# Altium schematic symbol library 001-H-01 CAN to Bluetooth.SchLib: 35 symbols
Pins are listed as number, name and electrical type; pins without a type are passive.

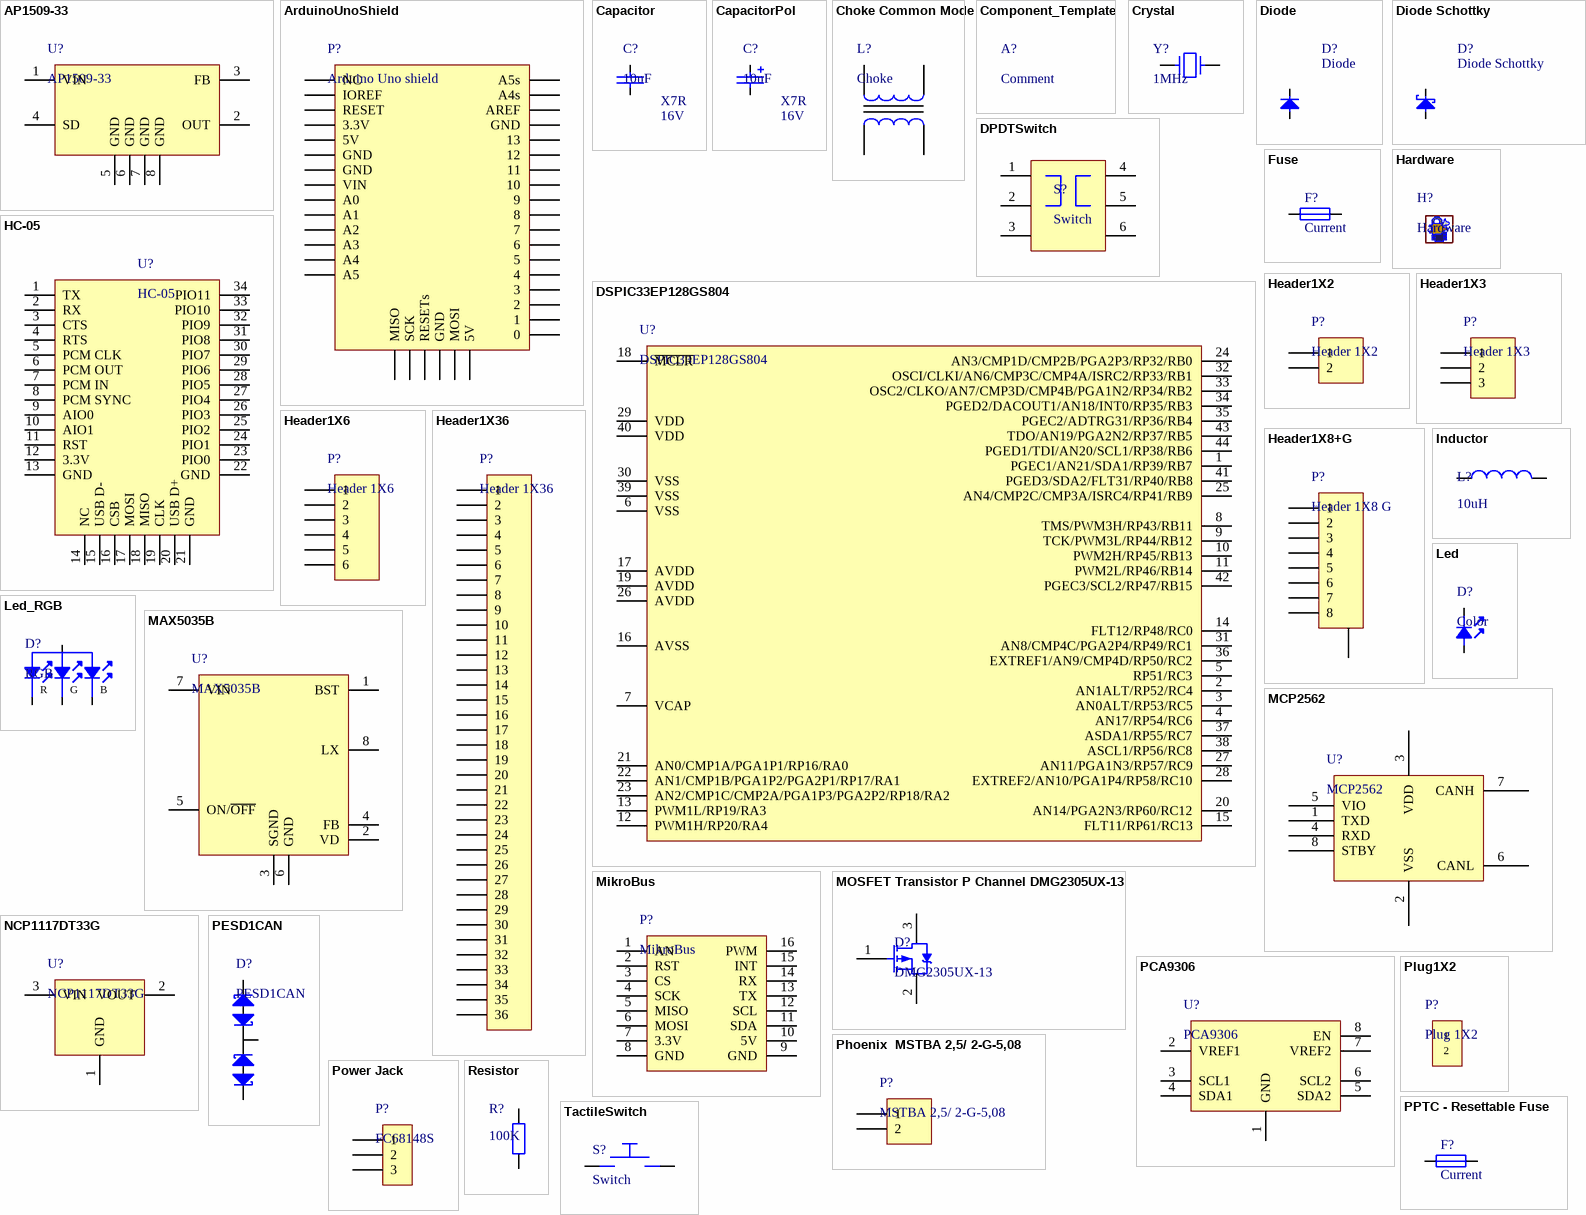
[diagram p0: symbols AP1509-33 to TactileSwitch]

## AP1509-33
designator U?
150KHz, 2A PWM BUCK DC/DC CONVERTER; Manufacturer: Diodes Inc; Manufacturer Part No: AP1509-33SG-13; Farnell Ordercode: 1825322; Price: 0.75
footprint SOIC-8N (SOIC, 8-Leads, Body 4.9x3.9mm (max), Pitch 1.27mm, IPC Medium Density)
pins: 1 VIN, 2 OUT, 3 FB, 4 SD, 5 GND, 6 GND, 7 GND, 8 GND

## ArduinoUnoShield
designator P?, comment Arduino Uno shield
Manufacturer: -; Manufacturer Part No: -; Farnell Ordercode: -; Price: 0.00
footprint ArduinoUnoShield
pins: 1 NC, 2 IOREF, 3 RESET, 4 3.3V, 5 5V, 6 GND, 7 GND, 8 VIN, 9 A0, 10 A1, 11 A2, 12 A3, 13 A4, 14 A5, 15 A5s, 16 A4s, 17 AREF, 18 GND, 19 13, 20 12, 21 11, 22 10, 23 9, 24 8, 25 7, 26 6, 27 5, 28 4, 29 3, 30 2, 31 1, 32 0, 33 MISO, 34 SCK, 35 RESETs, 36 GND, 37 MOSI, 38 5V

## Capacitor
designator C?, comment 10uF  Dielectric: X7R  VoltageRating: 16V
Capacitor; Manufacturer: -; Manufacturer Part No: -; Farnell Ordercode: -; Price: 0.00
footprint CAP0805 (Chip Capacitor, 2-Leads, Body 2.0x1.3mm, IPC Medium Density)
footprint CAP1210 (Chip Capacitor, 2-Leads, Body 3.2x2.5mm, IPC Medium Density)
footprint CAP1206 (Chip Capacitor, 2-Leads, Body 3.2x2.5mm, IPC Medium Density)
pins: 1, 2

## CapacitorPol
designator C?, comment 10uF  Dielectric: X7R  VoltageRating: 16V
Capacitor Pol; Manufacturer: -; Manufacturer Part No: -; Farnell Ordercode: -; Price: 0.00
footprint CAPP8383X62N (Capacitor SMD, 2-Leads, Body 8.3x8.3mm, IPC Medium Density)
footprint CAPPOL5MM (Capacitor SMD, 2-Leads, Body 8.3x8.3mm, IPC Medium Densit)
pins: 1, 2

## Choke Common Mode
designator L?, comment Choke
Choke common mode; Manufacturer: *; Manufacturer Part No: *; Farnell Ordercode: *; Price: 0.00
footprint IND200P450X300-4N (IND, 4-Leads, Body 3.4x4.7mm (max), Pitch 2.00mm, IPC Medium Density)
pins: 1, 2, 3, 4

## Component_Template
designator A?, comment Comment
Template; Manufacturer: *; Manufacturer Part No: *; Farnell Ordercode: *; Price: *

## Crystal
designator Y?, comment 1MHz
Crystal; Manufacturer: -; Manufacturer Part No: -; Farnell Ordercode: -; Price: 0.00
footprint XT49M-2016M (Crystal, 2-Leads, Body 11.0x4.7mm, IPC Medium Density)
pins: 1, 2

## Diode
designator D?
Manufacturer: -; Manufacturer Part No: -; Farnell Ordercode: -; Price: 0.00
footprint DIODEDO-214AC (Molded Diode, 2-Leads, Body 4.4x2.7mm, IPC Medium Density)
pins: 1 K, 2 A

## Diode Schottky
designator D?
Manufacturer: -; Manufacturer Part No: -; Farnell Ordercode: -; Price: 0.00
footprint DIODEDO-214AC (Molded Diode, 2-Leads, Body 4.4x2.7mm, IPC Medium Density)
pins: 1 K, 2 A

## DPDTSwitch
designator S?, comment Switch
Tactile Switch; Manufacturer: C&K COMPONENTS; Manufacturer Part No: JS202011AQN; Farnell Ordercode: 2435145; Price: 0.323
footprint JS202011AQN
pins: 1, 2, 3, 4, 5, 6

## DSPIC33EP128GS804
designator U?
16-Bit Digital Signal Controllers fo  r Digital Power Applications with   Interconnected High-Speed PWM, ADC, PGA and Comparators; Manufacturer: Microchip; Manufacturer Part No: DSPIC33EP128GS804-I/PT; Farnell Ordercode: 2706170; Price: 4.44
footprint TQFP80P1200X1200X120-44N (TQFP, 44-Leads, Body 12.0x12.0mm (max), Pitch 0.80mm, IPC Medium Density)
pins: 1 PGEC1/AN21/SDA1/RP39/RB7, 2 AN1ALT/RP52/RC4, 3 AN0ALT/RP53/RC5, 4 AN17/RP54/RC6, 5 RP51/RC3, 6 VSS, 7 VCAP, 8 TMS/PWM3H/RP43/RB11, 9 TCK/PWM3L/RP44/RB12, 10 PWM2H/RP45/RB13, 11 PWM2L/RP46/RB14, 12 PWM1H/RP20/RA4, 13 PWM1L/RP19/RA3, 14 FLT12/RP48/RC0, 15 FLT11/RP61/RC13, 16 AVSS, 17 AVDD, 18 ~{MCLR}, 19 AVDD, 20 AN14/PGA2N3/RP60/RC12, 21 AN0/CMP1A/PGA1P1/RP16/RA0, 22 AN1/CMP1B/PGA1P2/PGA2P1/RP17/RA1, 23 AN2/CMP1C/CMP2A/PGA1P3/PGA2P2/RP18/RA2, 24 AN3/CMP1D/CMP2B/PGA2P3/RP32/RB0, 25 AN4/CMP2C/CMP3A/ISRC4/RP41/RB9, 26 AVDD, 27 AN11/PGA1N3/RP57/RC9, 28 EXTREF2/AN10/PGA1P4/RP58/RC10, 29 VDD, 30 VSS, 31 AN8/CMP4C/PGA2P4/RP49/RC1, 32 OSCI/CLKI/AN6/CMP3C/CMP4A/ISRC2/RP33/RB1, 33 OSC2/CLKO/AN7/CMP3D/CMP4B/PGA1N2/RP34/RB2, 34 PGED2/DACOUT1/AN18/INT0/RP35/RB3, 35 PGEC2/ADTRG31/RP36/RB4, 36 EXTREF1/AN9/CMP4D/RP50/RC2, 37 ASDA1/RP55/RC7, 38 ASCL1/RP56/RC8, 39 VSS, 40 VDD, 41 PGED3/SDA2/FLT31/RP40/RB8, 42 PGEC3/SCL2/RP47/RB15, 43 TDO/AN19/PGA2N2/RP37/RB5, 44 PGED1/TDI/AN20/SCL1/RP38/RB6

## Fuse
designator F?, comment Current
Fuse; Manufacturer: -; Manufacturer Part No: -; Farnell Ordercode: -; Price: 0.00
footprint Fuse 1206
pins: 1, 2

## Hardware
designator H?
Generaric hardware; Manufacturer: -; Manufacturer Part No: -; Farnell Ordercode: -; Price: 0.00

## HC-05
designator U?
Bluetooth Module; Manufacturer: N/A; Manufacturer Part No: HC-05; Farnell Ordercode: N/A; Price: 7.00; TME Ordercode: HC-05
footprint HC-05
pins: 1 TX, 2 RX, 3 CTS, 4 RTS, 5 PCM CLK, 6 PCM OUT, 7 PCM IN, 8 PCM SYNC, 9 AIO0, 10 AIO1, 11 RST, 12 3.3V, 13 GND, 14 NC, 15 USB D-, 16 CSB, 17 MOSI, 18 MISO, 19 CLK, 20 USB D+, 21 GND, 22 GND, 23 PIO0, 24 PIO1, 25 PIO2, 26 PIO3, 27 PIO4, 28 PIO5, 29 PIO6, 30 PIO7, 31 PIO8, 32 PIO9, 33 PIO10, 34 PIO11

## Header1X2
designator P?, comment Header 1X2
Connector 1X2; Manufacturer: -; Manufacturer Part No: -; Farnell Ordercode: -; Price: 0.00
footprint Header1X2P100 (Header 1X2, 100mil pitch)
footprint 21.95MH/2-E (Terminal Block, Horizontal, Header, 5.08 mm, 2 Ways)
pins: 1, 2

## Header1X3
designator P?, comment Header 1X3
Connector 1X3; Manufacturer: -; Manufacturer Part No: -; Farnell Ordercode: -; Price: 0.00
footprint Header1X3P100 (Header 1X3, 100mil pitch)
pins: 1, 2, 3

## Header1X6
designator P?, comment Header 1X6
Connector 1X6; Manufacturer: -; Manufacturer Part No: -; Farnell Ordercode: -; Price: 0.00
footprint Header1X6P100 (Header 1X6, 100mil pitch)
footprint Header1X6P100_Program (Header 1X6, 100mil pitch)
pins: 1, 2, 3, 4, 5, 6

## Header1X8+G
designator P?, comment Header 1X8 G
Connector 1X8 with Ground; Manufacturer: -; Manufacturer Part No: -; Farnell Ordercode: -; Price: 0.00
footprint TECO-1-406541-5 (MODULAR, JACK, THT, R/A, RJ45, 8P8C)
pins: 1, 2, 3, 4, 5, 6, 7, 8, 9 G

## Header1X36
designator P?, comment Header 1X36
Connector 1X36; Manufacturer: -; Manufacturer Part No: -; Farnell Ordercode: -; Price: 0.00
footprint Header1X36P100 (Header 1X36, 100mil pitch)
pins: 1, 2, 3, 4, 5, 6, 7, 8, 9, 10, 11, 12, 13, 14, 15, 16, 17, 18, 19, 20, 21, 22, 23, 24, 25, 26, 27, 28, 29, 30, 31, 32, 33, 34, 35, 36

## Inductor
designator L?, comment 10uH
Inductor; Manufacturer: -; Manufacturer Part No: -; Farnell Ordercode: -; Price: 0.00
footprint INDP183140X66N (Precision Wire Wound Inductor, 2-Leads, Body 18.3x14.0mm, IPC Medium Density)
footprint INDWE-PD (Inductor, 2-Leads, Body 7.3x7.3mm, IPC Medium Density)
pins: 1, 2

## Led
designator D?, comment Color
Led; Manufacturer: -; Manufacturer Part No: -; Farnell Ordercode: -; Price: 0.00
footprint LED0805 (Chip LED, 2-Leads, Body 2.0x1.3mm, IPC Medium Density)
footprint LEDTHT
pins: 1 K, 2 A

## Led_RGB
designator D?, comment RGB
Led RGB; Manufacturer: -; Manufacturer Part No: -; Farnell Ordercode: -; Price: 0.00
footprint LED150P350X190-4M (LED, 4-Leads, Body 2.8x3.5mm (max), Pitch 1.50mm, IPC Low Density)
pins: 1 K, 2 K, 3 K, 4 A
text: R; G; B

## MAX5035B
designator U?
5V 1A, 76V, High-Efficiency MAXPower Step-Down DC-DC Converter; Manufacturer: Maxim Integrated Products; Manufacturer Part No: MAX5035BUSA+T; Farnell Ordercode: 2799102; Price: 3.26
footprint SOIC-8N (SOIC, 8-Leads, Body 4.9x3.9mm (max), Pitch 1.27mm, IPC Medium Density)
pins: 1 BST, 2 VD, 3 SGND, 4 FB, 5 ON/~{OFF}, 6 GND, 7 VIN, 8 LX

## MCP2562
designator U?
CAN Bus, Transceiver, CAN, LIN, 1, 1, 4.5 V, 5.5 V, SOIC; Manufacturer: Microchip; Manufacturer Part No: MCP2562-E/SN; Farnell Ordercode: 2362839; price: 0.79
footprint SOIC-8N (SOIC, 8-Leads, Body 4.9x3.9mm (max), Pitch 1.27mm, IPC Medium Density)
pins: 1 TXD, 2 VSS, 3 VDD, 4 RXD, 5 VIO, 6 CANL, 7 CANH, 8 STBY

## MikroBus
designator P?
Manufacturer: -; Manufacturer Part No: -; Farnell Ordercode: -; Price: 0.00
footprint MIKROBUS HOST CONN.
pins: 1 AN, 2 RST, 3 CS, 4 SCK, 5 MISO, 6 MOSI, 7 3.3V, 8 GND, 9 GND, 10 5V, 11 SDA, 12 SCL, 13 TX, 14 RX, 15 INT, 16 PWM

## MOSFET Transistor P Channel DMG2305UX-13
designator D?, comment DMG2305UX-13
Transistor,DMG2305UX-13 -  MOSFET Transistor, P Channel, -4.2 A, -20 V, 0.04 ohm, -4.5 V, -900 mV; Manufacturer: DIODES INC; Manufacturer Part No: DMG2305UX-13; Farnell Ordercode: 2543532; Price: 0.41
footprint SOT23-3N (SOT23, 3-Leads, Body 3.1x3.0mm (max), Pitch 0.95mm, IPC Medium Density)
pins: 1, 2, 3

## NCP1117DT33G
designator U?
Fixed LDO Voltage Regulator, 20V in, 1.07V Dropout, 3.3V/1A out, DPAK-3; Manufacturer: ON SEMICONDUCTOR; Manufacturer Part No: NCP1117DT33G; Farnell Ordercode: 1652364; Price: 0.37
footprint DPAK-3
pins: 1 GND, 2 VOUT, 3 VIN

## PCA9306
designator U?
Voltage Level Translator, Bidirectional, 2 Input, 64 mA, 900 ps, 0 V to 5 V, SSOP-8; Manufacturer: Texas Instruments; Manufacturer Part No: PCA9306DCTR; Farnell Ordercode: 1470936; Price: 0.52
footprint TSOP65P400X130-8N (TSOP, 8-Leads, Body 3.2x2.9mm (max), Pitch 0.65mm, IPC Medium Density)
pins: 1 GND, 2 VREF1, 3 SCL1, 4 SDA1, 5 SDA2, 6 SCL2, 7 VREF2, 8 EN

## PESD1CAN
designator D?
ESD Protection Device, TVS, 70 V, SOT-23, 3 Pins; Manufacturer: NXP; Manufacturer Part No: PESD1CAN; Farnell Ordercode: 1510703; Price: 0.13
footprint SOT23-3N (SOT23, 3-Leads, Body 3.1x3.0mm (max), Pitch 0.95mm, IPC Medium Density)
pins: 1, 2, 3

## Phoenix  MSTBA 2,5/ 2-G-5,08
designator P?, comment MSTBA 2,5/ 2-G-5,08
MSTBA 2,5/ 2-G-5,08  1757242; Manufacturer: -; Manufacturer Part No: -; Farnell Ordercode: -; Price: 0.00
footprint MSTBA 2,5/ 2-G-5,08 (MSTBA 2,5/ 2-G-5,08 1757242)
pins: 1, 2

## Plug1X2
designator P?, comment Plug 1X2
Manufacturer: -; Manufacturer Part No: -; Farnell Ordercode: -; Price: 0.00
footprint MC000136
text: 1; 2

## Power Jack
designator P?, comment FC68148S
DC Power Connector, Jack, 2 A, 2.1 mm, 6.4 mm, Surface Mount, Surface Mount; Manufacturer: CLIFF; Manufacturer Part No: FC68148S; Farnell Ordercode: 1889309; Price: 0.81
footprint POWERPLUG2.1
pins: 1, 2, 3

## PPTC - Resettable Fuse
designator F?, comment Current
2920L050DR -  PPTC Resettable Fuse, SMD, POLYFUSE 2920L Series, 500 mA, 1 A, 60 VDC, -40 °C /; Manufacturer: LITTELFUSE; Manufacturer Part No: 2920L050DR; Farnell Ordercode: 2920L050DR; Price: 0.6
footprint PTC2920
pins: 1, 2

## Resistor
designator R?, comment 100K
Resistor; Tolerance: 1%; Manufacturer: -; Manufacturer Part No: -; Farnell Ordercode: -; Price: 0.00
footprint RES0805 (Chip Resistor, 2-Leads, Body 2.0x1.3mm, IPC Medium Density)
footprint RES0603 (Chip Resistor, 2-Leads)
pins: 1, 2

## TactileSwitch
designator S?, comment Switch
Tactile Switch; Manufacturer: *; Manufacturer Part No: *; Farnell Ordercode: *; Price: 0.00
footprint SWITCH127P1000X300-4N (SWITCH, 4-Leads, Body 6.0x6.0mm (max), Pitch 1.27mm, IPC Medium Density)
footprint SWITCHTE1825027-2 (SWITCH, 2-Leads, Body 7.0x7.0mm (max), Pitch 4.5mm, IPC Medium Density)
pins: 1, 2